# Altium schematic symbol library IS25LP080D-JNLE-TR.SchLib: 1 symbol
Pins are listed as number, name and electrical type; pins without a type are passive.

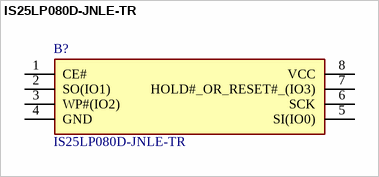
[diagram p0: symbol IS25LP080D-JNLE-TR]

## IS25LP080D-JNLE-TR
designator B?
8MB QSPI, 8-PIN SOP 150MIL, RO; Manufacturer_Name: Integrated Silicon Solution Inc.; Geometry.Height: 1.75mm; Mouser Part Number: 870-IS25LP080DJNLETR; Mouser Price/Stock: https://www.mouser.co.uk/ProductDetail/ISSI/IS25LP080D-JNLE-TR?qs=pif5%252B9MYt0VkH9msMJ5aTQ%3D%3D; Manufacturer_Part_Number: IS25LP080D-JNLE-TR; Datasheet Link: *
footprint SOIC127P600X175-8N
pins: 1 CE#, 2 SO(IO1), 3 WP#(IO2), 4 GND, 5 SI(IO0), 6 SCK, 7 HOLD#_OR_RESET#_(IO3), 8 VCC